# EAGLE library part IR4428PBF (library International_Rectifier_By_element14_Batch_1)
DUAL LOW SIDE DRIVER
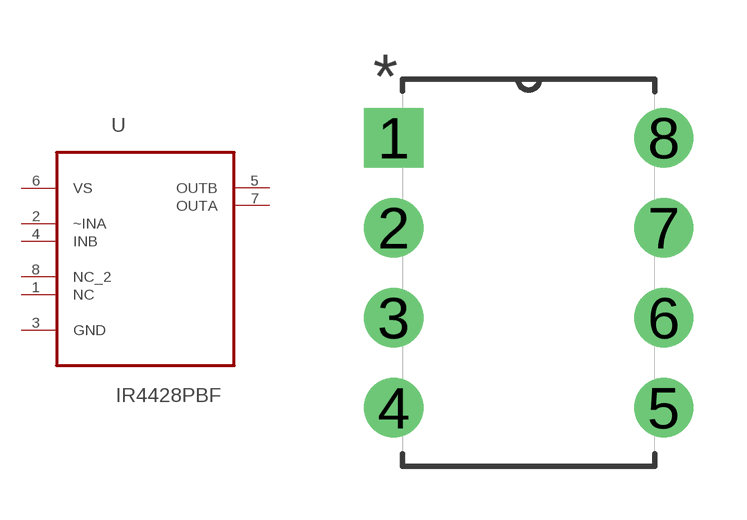
[diagram p80: symbol with the pads of DIP254P762X533-8; footprint DIP254P762X533-8]

Designator prefix U

## IR4428PBF (MPN: IR4428PBF; OC_FARNELL: 1023268; OC_NEWARK: 19K8464; PACKAGE: PDIP; SUPPLIER: INTERNATIONAL RECTIFIER)  [DIP254P762X533-8]
1  NC  nc
2  ~INA  in
3  GND  pas
4  INB  in
5  OUTB  out
6  VS  pwr
7  OUTA  out
8  NC_2  nc

## Footprint DIP254P762X533-8 (pad centres in mm)
drill 1.118 square: 1 -7.62,7.62
drill 1.118: 2 -7.62,5.08; 3 -7.62,2.54; 4 -7.62,0; 5 0,0; 6 0,2.54; 7 0,5.08; 8 0,7.62